# EAGLE library part PCA9622DR (library FaBo-LED)
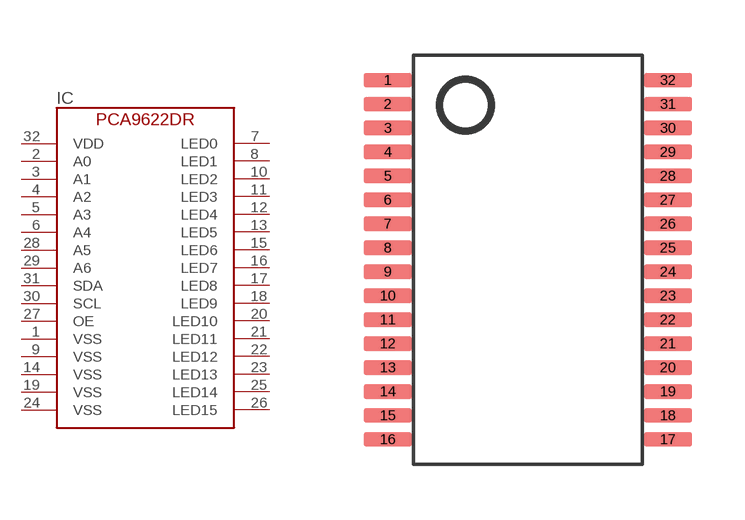
[diagram p3: symbol with the pads of TSSOP32; footprint TSSOP32]

Designator prefix IC

## PCA9622DR  [TSSOP32]
1  VSS
2  A0
3  A1
4  A2
5  A3
6  A4
7  LED0
8  LED1
9  VSS
10  LED2
11  LED3
12  LED4
13  LED5
14  VSS
15  LED6
16  LED7
17  LED8
18  LED9
19  VSS
20  LED10
21  LED11
22  LED12
23  LED13
24  VSS
25  LED14
26  LED15
27  OE
28  A5
29  A6
30  SCL
31  SDA
32  VDD

## Footprint TSSOP32 (pad centres in mm)
smd 1.3 x 0.4: 1 -3.8,4.875; 2 -3.8,4.225; 3 -3.8,3.575; 4 -3.8,2.925; 5 -3.8,2.275; 6 -3.8,1.625; 7 -3.8,0.975; 8 -3.8,0.325; 9 -3.8,-0.325; 10 -3.8,-0.975; 11 -3.8,-1.625; 12 -3.8,-2.275; 13 -3.8,-2.925; 14 -3.8,-3.575; 15 -3.8,-4.225; 16 -3.8,-4.875; 17 3.8,-4.875; 18 3.8,-4.225; 19 3.8,-3.575; 20 3.8,-2.925; 21 3.8,-2.275; 22 3.8,-1.625; 23 3.8,-0.975; 24 3.8,-0.325; 25 3.8,0.325; 26 3.8,0.975; 27 3.8,1.625; 28 3.8,2.275; 29 3.8,2.925; 30 3.8,3.575; 31 3.8,4.225; 32 3.8,4.875